# Altium integrated library TI Microcontroller MSP430 16-bit Ultra-Low Power.IntLib: 1463 symbols (part 22 of 130)
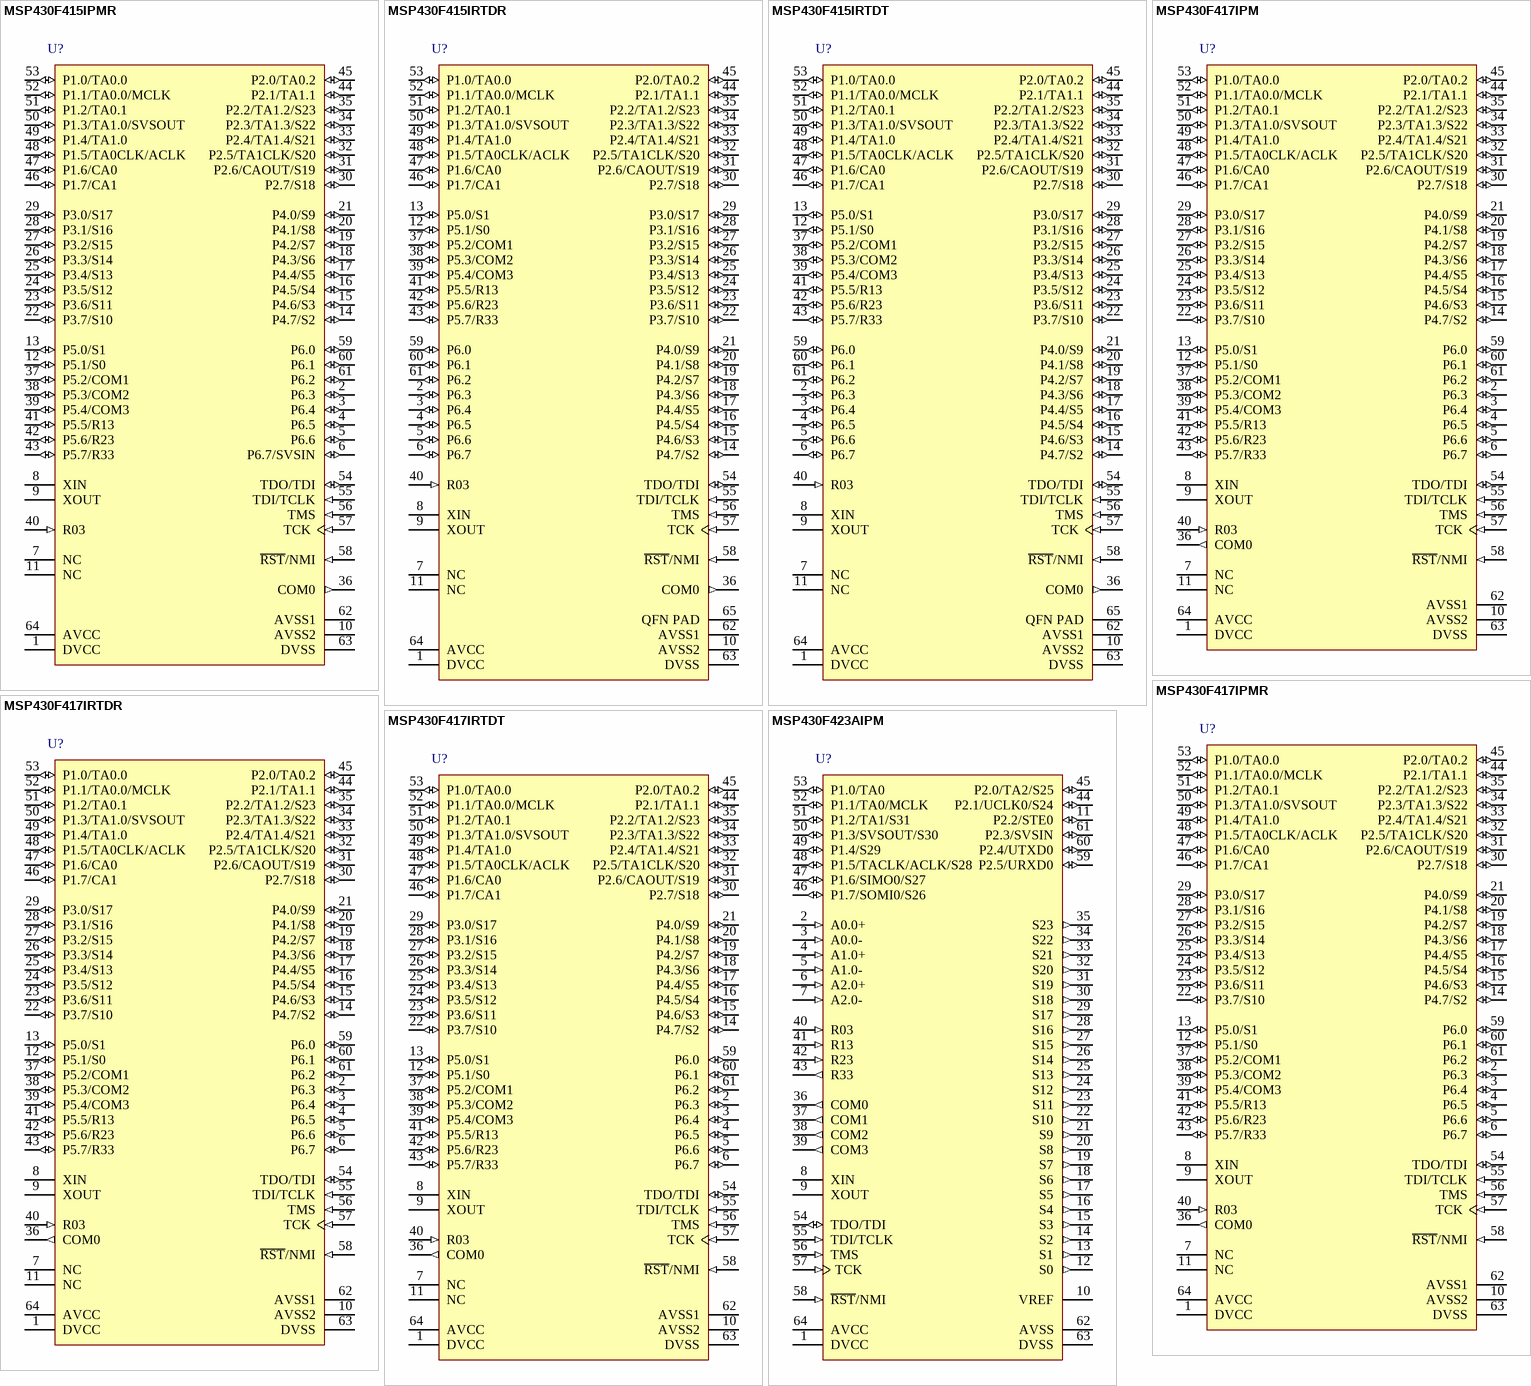
[diagram p347: symbols MSP430F415IPMR to MSP430F423AIPM]

## MSP430F417IRTDR
designator U?
8 MHz Mixed Signal Microcontroller with 32 KB Flash, 1024 B SRAM and 48 GPIOs, -40 to 85 degC, 64-pin QFN (RTD), Green (RoHS & no Sb/Br); Manufacturer: Texas Instruments; PartNumber: MSP430F417IRTDR; ADC: Slope; Brown Out Reset: Yes; Flash(KB): 32; Frequency(MHz): 8; GPIO: 48; LCD Segments: 96; SRAM(B): 1024; SubFamily: 4 Series with LCD; Timers - 16-bit: 2; DatasheetVersion: SLAS340J; PackageReference: RTD64; PackageDescription: 64-Pin Plastic Flat Pack, Body 9 x 9 mm, Pitch 0.5 mm; Supplier 1: Digi-Key; Supplier Part Number 1: 296-26227-2-ND; Supplier 2: Digi-Key; Supplier Part Number 2: 296-26227-1-ND; Supplier 3: Digi-Key; Supplier Part Number 3: 296-26227-6-ND; Supplier 4: Newark; Supplier Part Number 4: 01J0593; Supplier 5: Mouser; Supplier Part Number 5: 595-430F417IPMR; Comparators: Yes; Eco-Plan: Green (RoHS & no Sb/Br); SVS: Yes; Watchdog: Yes; Mounting Technology: Surface Mount; ComponentLink1Description: Manufacturer URL; ComponentLink1URL: http://www.ti.com/; ComponentLink2Description: Datasheet; ComponentLink2URL: http://www.ti.com/general/docs/lit/getliterature.tsp?genericPartNumber=MSP430F417&fileType=pdf; ComponentLink3Description: Package Specification; ComponentLink3URL: http://www.ti.com/lit/ds/symlink/msp430f1471.pdf
footprint TI-RTD64-4700X4700TP_N (QFN, 64-Leads, Body 9x9mm, Pitch 0.5mm, Thermal Pad 4.7x4.7mm, IPC Medium Density)
pins: 1 DVCC (power) "Digital supply voltage, positive terminal. Supplies all parts, except those which are supplied via AVCC", 2 P6.3 (io) "General-purpose digital I/O", 3 P6.4 (io) "General-purpose digital I/O", 4 P6.5 (io) "General-purpose digital I/O", 5 P6.6 (io) "General-purpose digital I/O", 6 P6.7 (io) "General-purpose digital I/O", 7 NC "Not internally connected. Connection to VSS recommended", 8 XIN "Input port for crystal oscillator XT1. Standard or watch crystals can be connected", 9 XOUT "Output terminal of crystal oscillator XT1", 10 AVSS2 (power) "Negative terminal that supplies SVS, brownout, oscillator, comparator_A. Needs to be externally connected to DVSS", 11 NC "Not internally connected. Connection to VSS recommended", 12 P5.1/S0 (io), 13 P5.0/S1 (io), 14 P4.7/S2 (io), 15 P4.6/S3 (io), 16 P4.5/S4 (io), 17 P4.4/S5 (io), 18 P4.3/S6 (io), 19 P4.2/S7 (io), 20 P4.1/S8 (io), 21 P4.0/S9 (io), 22 P3.7/S10 (io), 23 P3.6/S11 (io), 24 P3.5/S12 (io), 25 P3.4/S13 (io), 26 P3.3/S14 (io), 27 P3.2/S15 (io), 28 P3.1/S16 (io), 29 P3.0/S17 (io), 30 P2.7/S18 (io), 31 P2.6/CAOUT/S19 (io), 32 P2.5/TA1CLK/S20 (io), 33 P2.4/TA1.4/S21 (io), 34 P2.3/TA1.3/S22 (io), 35 P2.2/TA1.2/S23 (io), 36 COM0 (out) "Common output. COM0-3 are used for LCD backplanes", 37 P5.2/COM1 (io), 38 P5.3/COM2 (io), 39 P5.4/COM3 (io), 40 R03 (in) "Input port of fourth positive (lowest) analog LCD level (V5)", 41 P5.5/R13 (io), 42 P5.6/R23 (io), 43 P5.7/R33 (io), 44 P2.1/TA1.1 (io), 45 P2.0/TA0.2 (io), 46 P1.7/CA1 (io), 47 P1.6/CA0 (io), 48 P1.5/TA0CLK/ACLK (io), 49 P1.4/TA1.0 (io), 50 P1.3/TA1.0/SVSOUT (io), 51 P1.2/TA0.1 (io), 52 P1.1/TA0.0/MCLK (io), 53 P1.0/TA0.0 (io), 54 TDO/TDI (io), 55 TDI/TCLK (in), 56 TMS (in) "Test mode select. TMS is used as an input port for device programming and test", 57 TCK (in) "Test clock. TCK is the clock input port for device programming and test", 58 ~{RST}/NMI (in), 59 P6.0 (io) "General-purpose digital I/O", 60 P6.1 (io) "General-purpose digital I/O", 61 P6.2 (io) "General-purpose digital I/O", 62 AVSS1 (power) "Negative terminal that supplies SVS, brownout, oscillator, comparator_A. Needs to be externally connected to DVSS", 63 DVSS (power) "Digital supply voltage, negative terminal. Supplies all digital parts, except those which are supplied via AVCC/AVSS", 64 AVCC (power) "Positive terminal that supplies SVS, brownout, oscillator, comparator_A, port 1, and LCD resistive divider circuitry; must not power up prior to DVCC"

## MSP430F417IRTDT
designator U?
8 MHz Mixed Signal Microcontroller with 32 KB Flash, 1024 B SRAM and 48 GPIOs, -40 to 85 degC, 64-pin QFN (RTD), Green (RoHS & no Sb/Br); Manufacturer: Texas Instruments; PartNumber: MSP430F417IRTDT; ADC: Slope; Brown Out Reset: Yes; Flash(KB): 32; Frequency(MHz): 8; GPIO: 48; LCD Segments: 96; SRAM(B): 1024; SubFamily: 4 Series with LCD; Timers - 16-bit: 2; DatasheetVersion: SLAS340J; PackageReference: RTD64; PackageDescription: 64-Pin Plastic Flat Pack, Body 9 x 9 mm, Pitch 0.5 mm; Supplier 1: Digi-Key; Supplier Part Number 1: MSP430F417IRTDR-ND; Supplier 2: Newark; Supplier Part Number 2: 50M8863; Supplier 3: Mouser; Supplier Part Number 3: 595-MSP430F417IRTDR; Comparators: Yes; Eco-Plan: Green (RoHS & no Sb/Br); SVS: Yes; Watchdog: Yes; Mounting Technology: Surface Mount; ComponentLink1Description: Manufacturer URL; ComponentLink1URL: http://www.ti.com/; ComponentLink2Description: Datasheet; ComponentLink2URL: http://www.ti.com/general/docs/lit/getliterature.tsp?genericPartNumber=MSP430F417&fileType=pdf; ComponentLink3Description: Package Specification; ComponentLink3URL: http://www.ti.com/lit/ds/symlink/msp430f1471.pdf
footprint TI-RTD64-4700X4700TP_N (QFN, 64-Leads, Body 9x9mm, Pitch 0.5mm, Thermal Pad 4.7x4.7mm, IPC Medium Density)
pins: 1 DVCC (power) "Digital supply voltage, positive terminal. Supplies all parts, except those which are supplied via AVCC", 2 P6.3 (io) "General-purpose digital I/O", 3 P6.4 (io) "General-purpose digital I/O", 4 P6.5 (io) "General-purpose digital I/O", 5 P6.6 (io) "General-purpose digital I/O", 6 P6.7 (io) "General-purpose digital I/O", 7 NC "Not internally connected. Connection to VSS recommended", 8 XIN "Input port for crystal oscillator XT1. Standard or watch crystals can be connected", 9 XOUT "Output terminal of crystal oscillator XT1", 10 AVSS2 (power) "Negative terminal that supplies SVS, brownout, oscillator, comparator_A. Needs to be externally connected to DVSS", 11 NC "Not internally connected. Connection to VSS recommended", 12 P5.1/S0 (io), 13 P5.0/S1 (io), 14 P4.7/S2 (io), 15 P4.6/S3 (io), 16 P4.5/S4 (io), 17 P4.4/S5 (io), 18 P4.3/S6 (io), 19 P4.2/S7 (io), 20 P4.1/S8 (io), 21 P4.0/S9 (io), 22 P3.7/S10 (io), 23 P3.6/S11 (io), 24 P3.5/S12 (io), 25 P3.4/S13 (io), 26 P3.3/S14 (io), 27 P3.2/S15 (io), 28 P3.1/S16 (io), 29 P3.0/S17 (io), 30 P2.7/S18 (io), 31 P2.6/CAOUT/S19 (io), 32 P2.5/TA1CLK/S20 (io), 33 P2.4/TA1.4/S21 (io), 34 P2.3/TA1.3/S22 (io), 35 P2.2/TA1.2/S23 (io), 36 COM0 (out) "Common output. COM0-3 are used for LCD backplanes", 37 P5.2/COM1 (io), 38 P5.3/COM2 (io), 39 P5.4/COM3 (io), 40 R03 (in) "Input port of fourth positive (lowest) analog LCD level (V5)", 41 P5.5/R13 (io), 42 P5.6/R23 (io), 43 P5.7/R33 (io), 44 P2.1/TA1.1 (io), 45 P2.0/TA0.2 (io), 46 P1.7/CA1 (io), 47 P1.6/CA0 (io), 48 P1.5/TA0CLK/ACLK (io), 49 P1.4/TA1.0 (io), 50 P1.3/TA1.0/SVSOUT (io), 51 P1.2/TA0.1 (io), 52 P1.1/TA0.0/MCLK (io), 53 P1.0/TA0.0 (io), 54 TDO/TDI (io), 55 TDI/TCLK (in), 56 TMS (in) "Test mode select. TMS is used as an input port for device programming and test", 57 TCK (in) "Test clock. TCK is the clock input port for device programming and test", 58 ~{RST}/NMI (in), 59 P6.0 (io) "General-purpose digital I/O", 60 P6.1 (io) "General-purpose digital I/O", 61 P6.2 (io) "General-purpose digital I/O", 62 AVSS1 (power) "Negative terminal that supplies SVS, brownout, oscillator, comparator_A. Needs to be externally connected to DVSS", 63 DVSS (power) "Digital supply voltage, negative terminal. Supplies all digital parts, except those which are supplied via AVCC/AVSS", 64 AVCC (power) "Positive terminal that supplies SVS, brownout, oscillator, comparator_A, port 1, and LCD resistive divider circuitry; must not power up prior to DVCC"

## MSP430F423AIPM
designator U?
8 MHz Mixed Signal Microcontroller with 8 KB Flash, 256 B SRAM and 14 GPIOs, -40 to 85 degC, 64-pin QFP (PM), Green (RoHS & no Sb/Br); Manufacturer: Texas Instruments; PartNumber: MSP430F423AIPM; ADC: 16-bit Sigma Delta; Brown Out Reset: Yes; Flash(KB): 8; GPIO: 14; LCD Segments: 128; Multiplier: 16x16; SRAM(B): 256; SubFamily: 4 Series with LCD; Timers - 16-bit: 1; DatasheetVersion: SLAS587; PackageVersion: 4040152/C; PackageReference: PM64; PackageDescription: 64-Pin Plastic Quad Flat Pack, Body 10 x 10 mm, Pitch 0.5 mm; Supplier 1: Digi-Key; Supplier Part Number 1: 296-22755-2-ND; Supplier 2: Digi-Key; Supplier Part Number 2: 296-22755-1-ND; Supplier 3: Newark; Supplier Part Number 3: 50M8864; Supplier 4: Mouser; Supplier Part Number 4: 595-MSP430F417IRTDT; Eco-Plan: Green (RoHS & no Sb/Br); Frequency(MHz): 8; SVS: Yes; Temp Sensor: Yes; Watchdog: Yes; Mounting Technology: Surface Mount; Code_JEDEC: MS-026; ComponentLink1Description: Manufacturer URL; ComponentLink1URL: http://www.ti.com/; ComponentLink2Description: Datasheet; ComponentLink2URL: http://www.ti.com/general/docs/lit/getliterature.tsp?genericPartNumber=MSP430F423A&fileType=pdf; ComponentLink3Description: Package Specification; ComponentLink3URL: http://www.ti.com/lit/ml/mtqf008a/mtqf008a.pdf
footprint TI-PM64_N (QFP, 64-Leads, Body 10x10mm, Pitch 0.5mm, IPC Medium Density)
pins: 1 DVCC (power) "Digital supply voltage, positive terminal.", 2 A0.0+ (in) "Internal connection to SD16 Channel 0, input 0 +.", 3 A0.0- (in) "Internal connection to SD16 Channel 0, input 0 -.", 4 A1.0+ (in) "Internal connection to SD16 Channel 1, input 0 +.", 5 A1.0- (in) "Internal connection to SD16 Channel 1, input 0 -.", 6 A2.0+ (in) "Internal connection to SD16 Channel 2, input 0 +.", 7 A2.0- (in) "Internal connection to SD16 Channel 2, input 0 -.", 8 XIN "Input port for crystal oscillator XT1. Standard or watch crystals can be connected.", 9 XOUT "Output terminal of crystal oscillator XT1", 10 VREF "Input for an external reference voltage / internal reference voltage output (can be used as mid-voltage)", 11 P2.2/STE0 (io), 12 S0 (out) "LCD segment output 0", 13 S1 (out) "LCD segment output 1", 14 S2 (out) "LCD segment output 2", 15 S3 (out) "LCD segment output 3", 16 S4 (out) "LCD segment output 4", 17 S5 (out) "LCD segment output 5", 18 S6 (out) "LCD segment output 6", 19 S7 (out) "LCD segment output 7", 20 S8 (out) "LCD segment output 8", 21 S9 (out) "LCD segment output 9", 22 S10 (out) "LCD segment output 10", 23 S11 (out) "LCD segment output 11", 24 S12 (out) "LCD segment output 12", 25 S13 (out) "LCD segment output 13", 26 S14 (out) "LCD segment output 14", 27 S15 (out) "LCD segment output 15", 28 S16 (out) "LCD segment output 16", 29 S17 (out) "LCD segment output 17", 30 S18 (out) "LCD segment output 18", 31 S19 (out) "LCD segment output 19", 32 S20 (out) "LCD segment output 20", 33 S21 (out) "LCD segment output 21", 34 S22 (out) "LCD segment output 22", 35 S23 (out) "LCD segment output 23", 36 COM0 (out) "Common output, COM0-3 are used for LCD backplanes.", 37 COM1 (out) "Common output, COM0-3 are used for LCD backplanes.", 38 COM2 (out) "Common output, COM0-3 are used for LCD backplanes.", 39 COM3 (out) "Common output, COM0-3 are used for LCD backplanes.", 40 R03 (in) "Input port of fourth positive (lowest) analog LCD level (V5)", 41 R13 (in) "Input port of third most positive analog LCD level (V4 or V3)", 42 R23 (in) "Input port of second most positive analog LCD level (V2)", 43 R33 (out) "Output port of most positive analog LCD level (V1)", 44 P2.1/UCLK0/S24 (io), 45 P2.0/TA2/S25 (io), 46 P1.7/SOMI0/S26 (io), 47 P1.6/SIMO0/S27 (io), 48 P1.5/TACLK/ACLK/S28 (io), 49 P1.4/S29 (io), 50 P1.3/SVSOUT/S30 (io), 51 P1.2/TA1/S31 (io), 52 P1.1/TA0/MCLK (io), 53 P1.0/TA0 (io), 54 TDO/TDI (io), 55 TDI/TCLK (in), 56 TMS (in) "Test mode select. TMS is used as an input port for device programming and test.", 57 TCK (in) "Test clock. TCK is the clock input port for device programming and test.", 58 ~{RST}/NMI (in), 59 P2.5/URXD0 (io), 60 P2.4/UTXD0 (io), 61 P2.3/SVSIN (io), 62 AVSS (power) "Analog supply voltage, negative terminal. Supplies SD16, SVS, brownout, oscillator, and LCD resistive divider circuitry.", 63 DVSS (power) "Digital supply voltage, negative terminal", 64 AVCC (power) "Analog supply voltage, positive terminal. Supplies SD16, SVS, brownout, oscillator, and LCD resistive divider circuitry; must not power up prior to DVCC."

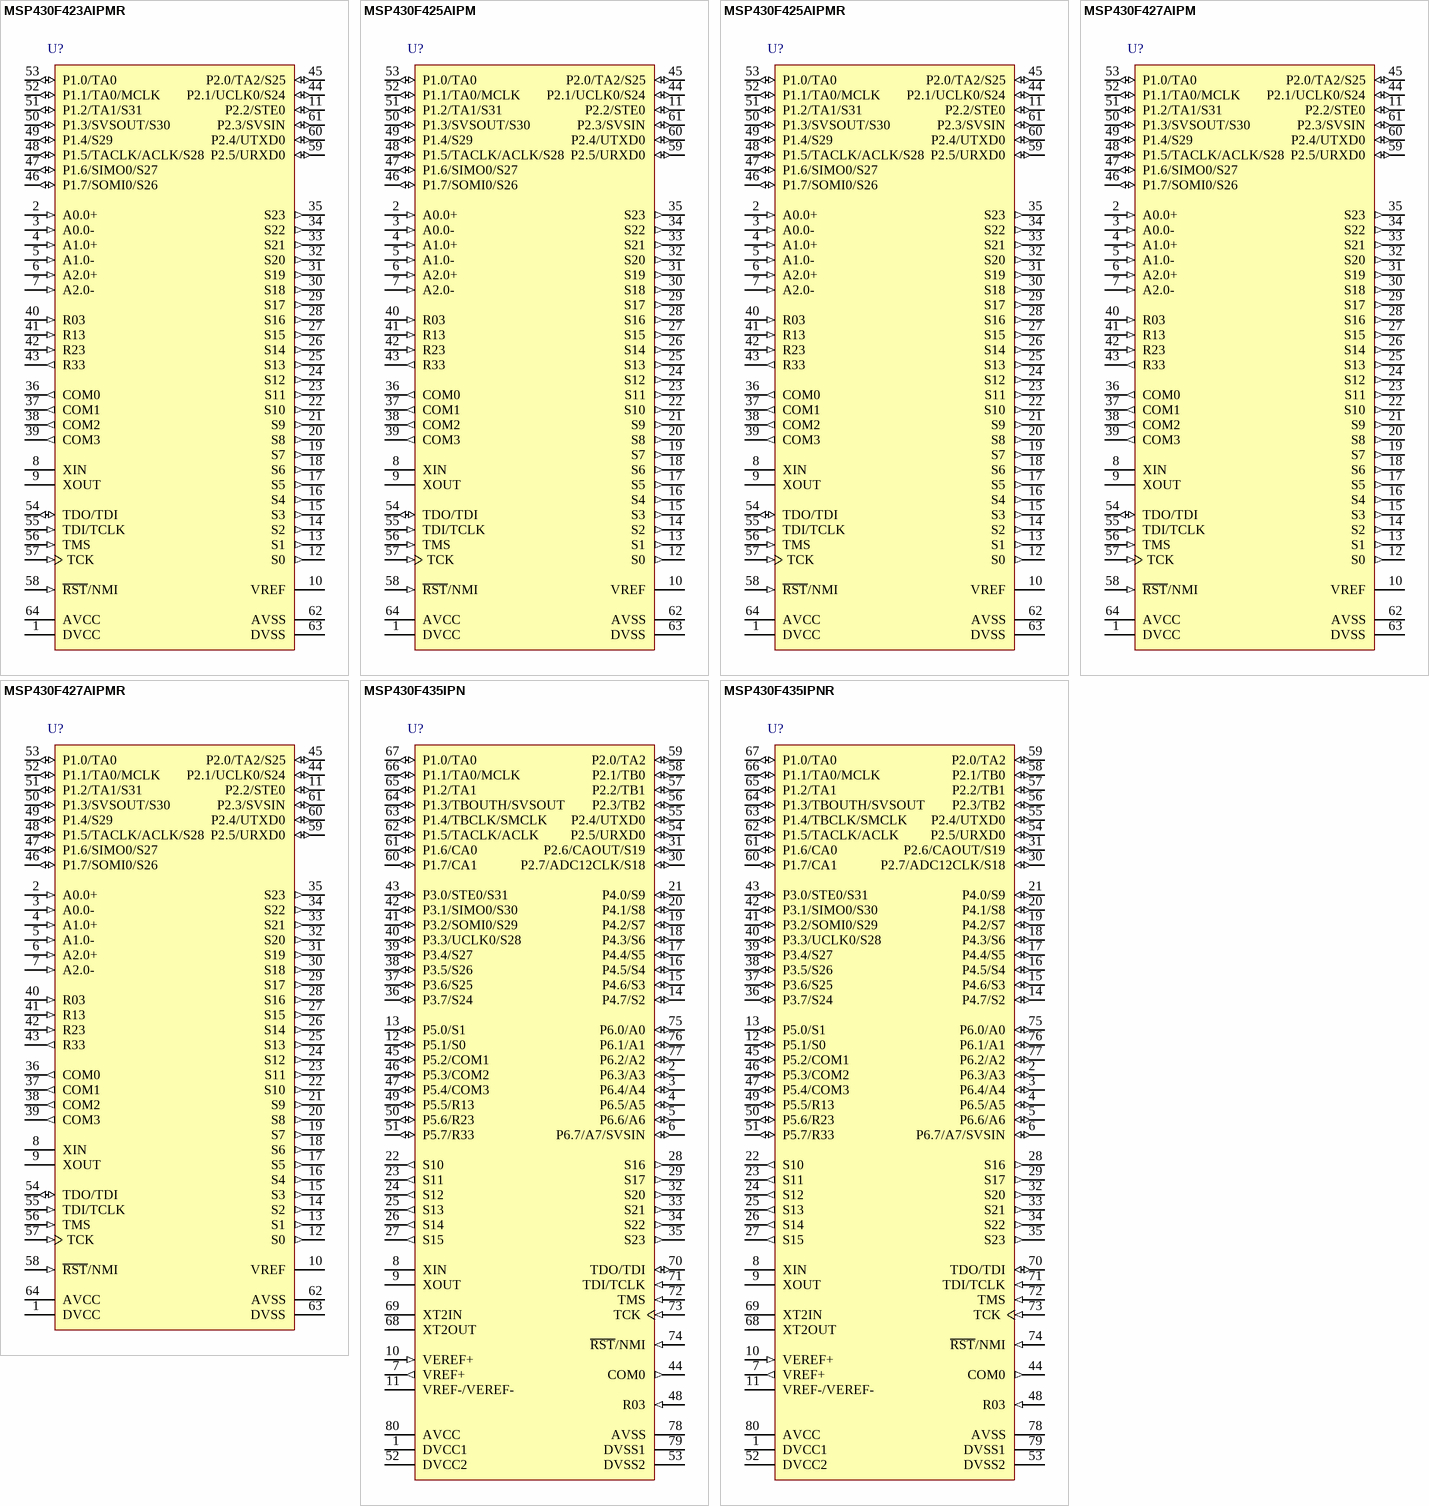
[diagram p33: symbols MSP430F423AIPMR to MSP430F435IPNR]